# EAGLE library part 5-2337992-8 (library Labops_Lib_AH)
1 Port RJ45Through Hole 1G Base-T, AutoMDIX, Power over Ethernet
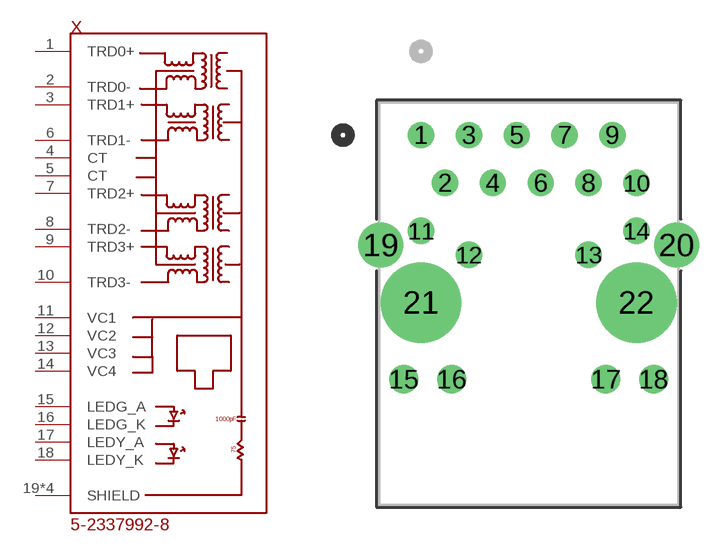
[diagram p80: symbol with the pads of 5-2337992-8; footprint 5-2337992-8]

Designator prefix X

## 5-2337992-8 (AVAILABILITY: In Stock; DESCRIPTION: 1 Port RJ45 Magjack Connector Through Hole 1G Base-T, AutoMDIX, Power over Ethernet (PoE); MFN: 5-2337992-8; MFR: TE Connectivity; PRICE: None)  [5-2337992-8]
1  TRD0+  pas
2  TRD0-  pas
3  TRD1+  pas
4  CT  pas
5  CT  pas
6  TRD1-  pas
7  TRD2+  pas
8  TRD2-  pas
9  TRD3+  pas
10  TRD3-  pas
11  VC1  pas
12  VC2  pas
13  VC3  pas
14  VC4  pas
15  LEDG_A  pas
16  LEDG_K  pas
17  LEDY_A  pas
18  LEDY_K  pas
19  SHIELD  pas
20  SHIELD  pas
21  SHIELD  pas
22  SHIELD  pas

## Footprint 5-2337992-8 (pad centres in mm)
drill 0.889 pad 1.397: 1 0,0; 2 1.27,-2.54; 3 2.54,0; 4 3.81,-2.54; 5 5.08,0; 6 6.35,-2.54; 7 7.62,0; 8 8.89,-2.54; 9 10.16,0; 10 11.43,-2.54; 11 0,-5.08; 12 2.54,-6.35; 13 8.89,-6.35; 14 11.43,-5.08
drill 1.016 pad 1.524: 15 -0.914,-12.954; 16 1.626,-12.954; 17 9.804,-12.954; 18 12.344,-12.954
drill 1.6 pad 2.108: 19 -2.134,-5.842; 20 13.564,-5.842
drill 3.251 pad 3.251: 21 0,-8.89; 22 11.43,-8.89